# Altium schematic symbol library Inductor_shielded.SchLib: 1 symbol
Pins are listed as number, name and electrical type; pins without a type are passive.

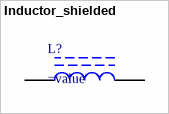
[diagram p0: symbol Inductor_shielded]

## Inductor_shielded
designator L?
pins: 1, 2